# Altium footprint library TO.PcbLib: 4 footprints
Each footprint in its own frame and in the unit in brackets; x right, y up, seen from the top. Pads: shape width x height; smd on the part's side, far side on the other; paste and mask are expansions set on the pad; w line width, h text height; cw(c..) or ccw(c..) is an arc to the next point about the centre after c.
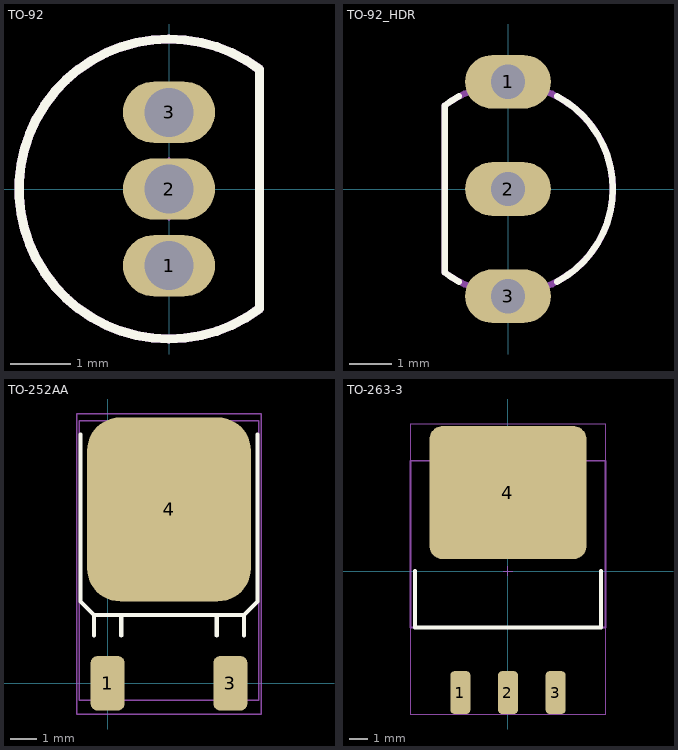
[diagram p0: the footprints below, top view; thin cyan lines are the x and y axes]

## TO-92 [mil]
pads (3):
  oval 60x40 hole 32: 1(0,-50) 2(0,0) 3(0,50)
Top Overlay:
  lines w6: 59.06,-77.95 cw(c0,0) 59.06,77.95 59.05,-77.95
Mechanical 13:
  lines w2: -10,0 10,0 ; 0,-10 0,10
  lines w6: 59.06,-77.95 cw(c0,0) 59.06,77.95 59.05,-77.95
Mechanical 15:
  lines w2: -20,0 20,0 ; 0,-20 0,20
3D body "SW3dPS-TO-92.STEP": height 405.76, standoff -228.35, extent -120,-124.1 69.37,120

## TO-92_HDR [mil]
pads (3):
  oval 80x50 hole 32: 1(0,100) 2(0,0) 3(0,-100)
Top Overlay:
  lines w6: -45.76,-86.43 cw(c0,0) -59.06,-77.95 -59.05,77.95 cw(c0,0) -45.76,86.43 ; 45.76,-86.43 ccw(c0,0) 45.76,86.43
Mechanical 13:
  lines w2: -10,0 10,0 ; 0,-10 0,10
  lines w6: -59.06,-77.95 ccw(c0,0) -59.06,77.95 -59.05,-77.95
Mechanical 15:
  lines w2: -20,0 20,0 ; 0,-20 0,20
3D body "User Library-TO-92-4.STEP": height 409.84, standoff -300, extent -60.24,-112.28 104.72,113.7

## TO-252AA [mil]
pads (3):
  rrect40% 50x80 smd: 1(0,0) 3(180,0)
  rrect40% 240x270 smd: 4(90,255)
Top Overlay:
  lines w6: -40,365 -40,120 -20,100 ; -20,70 -20,100 ; 20,70 20,100 ; 160,70 160,100 ; 200,70 200,100 ; 220,365 220,120 200,100 ; -20,100 200,100
Mechanical 13:
  lines w2: -42,-25 -42,385 222,385 222,-25 -42,-25
Mechanical 14:
  lines w2: -45,-45 225,-45 225,395 -45,395 -45,-45
3D body "TO-252.STEP": height 90.56, standoff -4.52, extent -38.73,-16.77 218.75,374.5

## TO-263-3 [mil]
height 182.68
pads (4):
  rrect40% 42x90 smd: 1(-100,-255) 2(0,-255) 3(100,-255)
  rrect20% 330x280 smd: 4(0,165)
Top Overlay:
  lines w8: -195,0 -195,-118.11 195,-118.11 195,0
Mechanical 13:
  lines w2: -10,0 10,0 ; 0,-10 0,10
  lines w4: -204.72,-118.11 204.72,-118.11 204.72,231.89 -204.72,231.89 -204.72,-118.11
Mechanical 14:
  lines w2: -205,-300 205,-300 205,310 -205,310 -205,-300
  text ".Designator" at -41,-25 h100
3D body "SW3dPS-to-263.STEP": height 184.65, standoff 0, extent -199.99,-292.88 200.01,315